# EAGLE library part 2080-506 (library con-wago_2080)
Serie 2080, 2-Leiter-Klemmenleiste mit Betätigungsdrückern 4-polig / Series 2080, 2-conductor terminal strip with push-buttons 4-pole Polzahl / Pole No.: 6 Rastermaß / Pitch: 2.5 mm Bemessungsspannung / Rated Voltage: 160 V Nennstrom / Nominal Current: 2 A Leiterquerschnitt / Conductor Size: 0.2 - 0.5 mm2 Anschlusstechnik / Connection Technology: PUSH WIRE® Lötstiftlänge: / Solder Pin Length: 3.4 mm Leitereinführung (zur Platine) / Conductor entry angle (to PCB): 90 ° Farbe / Color: grau / gray Stand: 01.01.2014. Die jeweils aktuellen Daten zu diesem Artikel finden Sie in unserem Produktkatalog, den Sie unter www.wago.com einsehen können. As of: 01/01/2014. Please find the newest data for this article in our product catalogue, which can be viewed under www.wago.com.
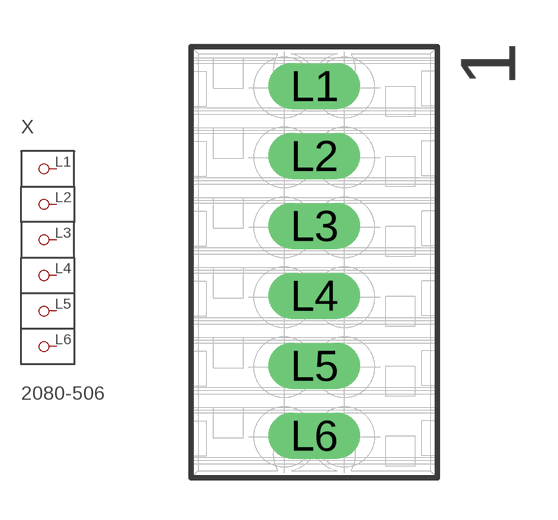
[diagram p0: symbol with the pads of P-2080-506; footprint P-2080-506]

Designator prefix X

## 2080-506  [P-2080-506]
L1  P1
L2  P2
L3  P3
L4  P4
L5  P5
L6  P6

## Footprint P-2080-506 (pad centres in mm)
drill 1.1 long: L1 0,-1.4; L2 0,-3.9; L3 0,-6.4; L4 0,-8.9; L5 0,-11.4; L6 0,-13.9